# Altium footprint library smart-clock-pcblib.PcbLib: 16 footprints
Each footprint in its own frame and in the unit in brackets; x right, y up, seen from the top. Pads: shape width x height; smd on the part's side, far side on the other; paste and mask are expansions set on the pad; w line width, h text height; cw(c..) or ccw(c..) is an arc to the next point about the centre after c.
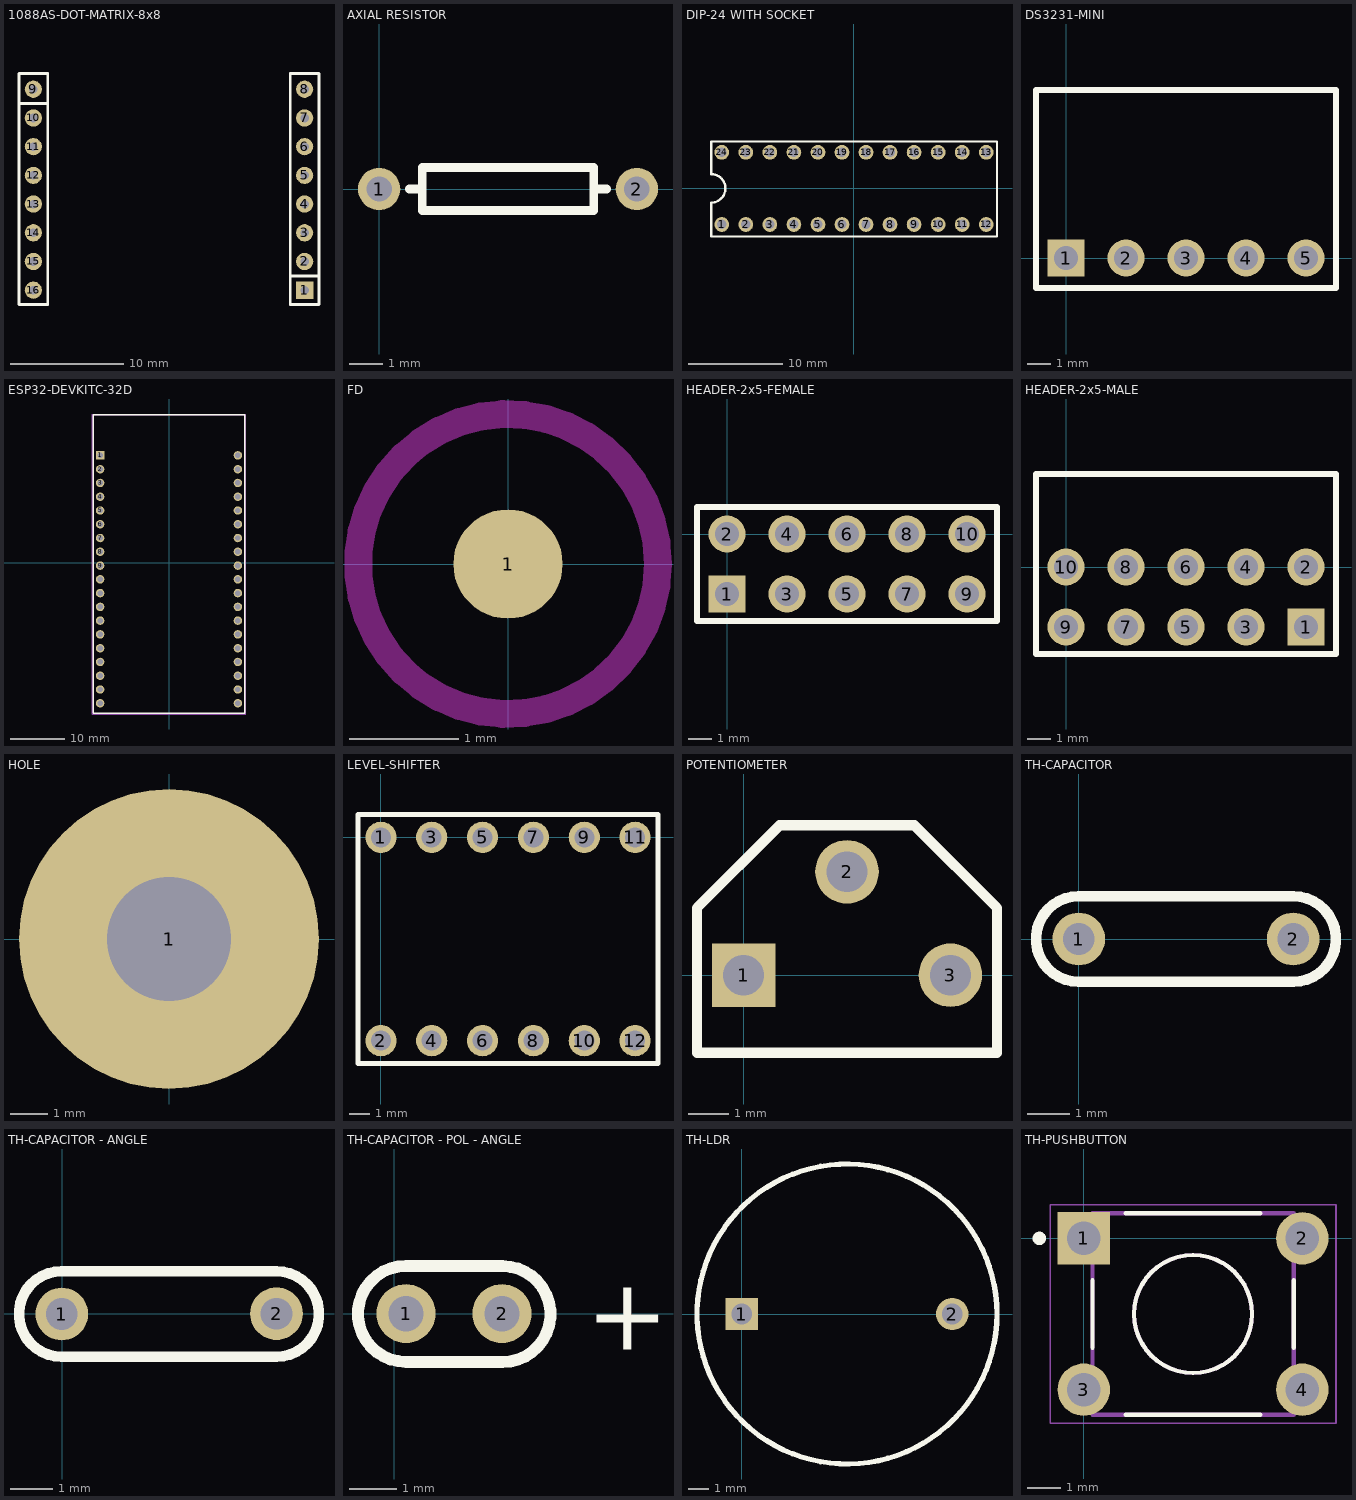
[diagram p0: the footprints below, top view; thin cyan lines are the x and y axes]

## 1088AS-DOT-MATRIX-8x8 [mil] "8x8 DOT MATRIX DISPLAY"
pads (16):
  rect 60x60 hole 30: 1(1100,280)
  round 60 hole 30: 2(1100,380) 3(1100,480) 4(1100,580) 5(1100,680) 6(1100,780) 7(1100,880) 8(1100,980) 9(155,980) 10(155,880) 11(155,780) 12(155,680) 13(155,580) 14(155,480) 15(155,380) 16(155,280)
Top Overlay:
  lines w10: 105,930 205,930 ; 1050,330 1145,330 ; 105,230 205,230 205,1035 105,1035 105,230 ; 1050,230 1150,230 1150,1035 1050,1035 1050,230
3D body "8x8 LED Dot Matrix Display Module.step": height 396.54, standoff -124.33, extent 0,4.02 1252.36,1255.98

## AXIAL RESISTOR [mm] "STANDARD AXIAL RESISTOR"
pads (2):
  round 1.25 hole 0.75: 1(0,0) 2(7.62,0)
Top Overlay:
  lines w0.254: 0.889,0 1.27,0 ; 6.35,0 6.731,0 ; 1.27,0 1.27,-0.635 6.35,-0.635 6.35,0.635 1.27,0.635 1.27,0
3D body "TH Resistor - 10k.step": height 2.28, standoff -3.32, extent -0.255,-1.108 7.865,1.092

## DIP-24 WITH SOCKET [mm] "DIP-24 PACKAGE WITH SOCKET"
pads (24):
  round 1.56 hole 1: 1(-13.97,-3.81) 2(-11.43,-3.81) 3(-8.89,-3.81) 4(-6.35,-3.81) 5(-3.81,-3.81) 6(-1.27,-3.81) 7(1.27,-3.81) 8(3.81,-3.81) 9(6.35,-3.81) 10(8.89,-3.81) 11(11.43,-3.81) 12(13.97,-3.81) 13(13.97,3.81) 14(11.43,3.81) 15(8.89,3.81) 16(6.35,3.81) 17(3.81,3.81) 18(1.27,3.81) 19(-1.27,3.81) 20(-3.81,3.81) 21(-6.35,3.81) 22(-8.89,3.81) 23(-11.43,3.81) 24(-13.97,3.81)
Top Overlay:
  lines w0.254: -15.104,-5.08 -15.104,-1.5 ccw(c-15.089,0) -15.086,1.5 -15.086,4.953 15.113,4.953 15.113,-5.08 -15.104,-5.08
3D body "MAX7219.step": height 9.13, standoff -3.25, extent -15.24,-5.08 15.24,5.08

## DS3231-MINI [mm] "DS3231-MINI"
pads (5):
  rect 1.56x1.56 hole 1: 1(0,0)
  round 1.56 hole 1: 2(2.54,0) 3(5.08,0) 4(7.62,0) 5(10.16,0)
Top Overlay:
  lines w0.254: -1.27,-1.27 11.43,-1.27 11.43,7.112 -1.27,7.112 -1.27,-1.27
3D body "DS3231 Mini.step": height 15.29, standoff -8.86, extent -1.275,-0.335 11.435,7.031

## ESP32-DEVKITC-32D [mm] "ESP32-DEVKITC-32D"
pads (38):
  rect 1.56x1.56 hole 1: 1(-12.7,19.76)
  round 1.56 hole 1: 2(-12.7,17.22) 3(-12.7,14.68) 4(-12.7,12.14) 5(-12.7,9.6) 6(-12.7,7.06) 7(-12.7,4.52) 8(-12.7,1.98) 9(-12.7,-0.56) 10(-12.7,-3.1) 11(-12.7,-5.64) 12(-12.7,-8.18) 13(-12.7,-10.72) 14(-12.7,-13.26) 15(-12.7,-15.8) 16(-12.7,-18.34) 17(-12.7,-20.88) 18(-12.7,-23.42) 19(-12.7,-25.96) 20(12.7,19.76) 21(12.7,17.22) 22(12.7,14.68) 23(12.7,12.14) 24(12.7,9.6) 25(12.7,7.06) 26(12.7,4.52) 27(12.7,1.98) 28(12.7,-0.56) 29(12.7,-3.1) 30(12.7,-5.64) 31(12.7,-8.18) 32(12.7,-10.72) 33(12.7,-13.26) 34(12.7,-15.8) 35(12.7,-18.34) 36(12.7,-20.88) 37(12.7,-23.42) 38(12.7,-25.96)
Top Overlay:
  lines w0.254: -13.95,-27.813 13.95,-27.813 13.95,27.305 -13.95,27.305 -13.95,-27.813
Mechanical 13:
  lines w0.127: -13.95,27.305 -13.95,-27.813 13.95,-27.813 13.95,27.305
  lines w0.2: -13.95,27.305 13.95,27.305
Mechanical 15:
  lines w0.05: -14.2,-27.94 -14.2,27.4 14.2,27.4 14.2,-27.94 -14.2,-27.94
3D body "ESP32-DEVKITC-32D.STEP": height 6.81, standoff -5.88, extent -13.97,-27.848 13.97,27.252

## FD [mm] "FIDUCIAL MARKER"
pads (1):
  round 1 all layers, no hole mask+1: 1(0,0)
Keep-Out Layer:
  circle w0.254: c0,0 r1.373

## HEADER-2x5-FEMALE [mm] "2.54mm FEMALE HEADER - 2x5"
pads (10):
  rect 1.56x1.56 hole 1: 1(0,-2.54)
  round 1.56 hole 1: 2(0,0) 3(2.54,-2.54) 4(2.54,0) 5(5.08,-2.54) 6(5.08,0) 7(7.62,-2.54) 8(7.62,0) 9(10.16,-2.54) 10(10.16,0)
Top Overlay:
  lines w0.254: -1.27,-3.683 -1.27,1.143 11.43,1.143 11.43,-3.683 -1.27,-3.683
3D body "2x5 Female Pin Header.stp": height 8.58, standoff -2.92, extent -1.494,-3.796 11.706,1.204

## HEADER-2x5-MALE [mm] "2.54mm MALE HEADER - 2x5"
pads (10):
  rect 1.56x1.56 hole 1: 1(10.16,-2.54)
  round 1.56 hole 1: 2(10.16,0) 3(7.62,-2.54) 4(7.62,0) 5(5.08,-2.54) 6(5.08,0) 7(2.54,-2.54) 8(2.54,0) 9(0,-2.54) 10(0,0)
Top Overlay:
  lines w0.254: -1.27,-3.683 11.43,-3.683 11.43,3.937 -1.27,3.937 -1.27,-3.683
3D body "2x5 Male Pin Header Angle.STEP": height 5.04, standoff -2.96, extent -1.27,-2.836 11.435,12.064

## HOLE [mm] "M3 SCREW HOLE"
pads (1):
  round 8 hole 3.3: 1(0,0)

## LEVEL-SHIFTER [mm] "3.3V TO 5V LEVEL SHIFTER"
pads (12):
  round 1.56 hole 1: 1(0,0) 2(0,-10.16) 3(2.54,0) 4(2.54,-10.16) 5(5.08,0) 6(5.08,-10.16) 7(7.62,0) 8(7.62,-10.16) 9(10.16,0) 10(10.16,-10.16) 11(12.7,0) 12(12.7,-10.16)
Top Overlay:
  lines w0.254: -1.143,-11.303 -1.143,1.143 13.843,1.143 13.843,-11.303 -1.143,-11.303
3D body "LEVEL SHIFTER.step": height 5.58, standoff -8, extent -1.285,-11.43 14.01,1.27

## POTENTIOMETER [mm] "POTENTIOMETER"
pads (3):
  rect 1.56x1.56 hole 1: 1(0,0)
  round 1.56 hole 1: 2(2.54,2.54) 3(5.08,0)
Top Overlay:
  lines w0.254: -1.143,-1.905 6.223,-1.905 6.223,-1.143 6.223,1.651 4.191,3.683 0.889,3.683 -1.143,1.651 -1.143,-0.889 -1.143,-1.905
3D body "TH Potmeter.step": height 8.34, standoff -3.31, extent -0.71,-2.032 5.79,2.838

## TH-CAPACITOR [mm] "TH-CAPACITOR"
pads (2):
  round 1.25 hole 0.75: 1(0,0) 2(5.08,0)
Top Overlay:
  lines w0.254: 0,-1.016 cw(c0,0) 0,1.016 5.08,1.016 cw(c5.08,0) 5.08,-1.016 0,-1.016
3D body "TH Capacitor - 0.1uF.step": height 6.86, standoff -2.88, extent -0.708,-1.27 5.788,1.225

## TH-CAPACITOR - ANGLE [mm] "TH-CAPACITOR - ANGLE"
pads (2):
  round 1.25 hole 0.75: 1(-0.009,-0.008) 2(5.08,0)
Top Overlay:
  lines w0.254: -0.009,-1.024 cw(c-0.009,-0.008) -0.009,1.008 5.071,1.008 cw(c5.071,-0.008) 5.071,-1.024 -0.009,-1.024
3D body "TH Capacitor - Angle.step": height 2.64, standoff -4.11, extent -0.762,-0.32 5.734,6.67

## TH-CAPACITOR - POL - ANGLE [mm] "TH-CAPACITOR - POL - ANGLE"
pads (2):
  round 1.25 hole 0.75: 1(0.254,0) 2(2.286,0)
Top Overlay:
  lines w0.254: 0.254,-1.024 2.286,-1.024 ; 0.254,-1.022 cw(c0.254,-0.006) 0.254,1.01 ; 0.254,1.008 2.286,1.008 ; 2.295,-1.026 ccw(c2.295,-0.01) 2.295,1.006
  text "+" at 4.064,-0.762 h1.52
3D body "TH Capacitor - 1uF.step": height 5.09, standoff -2.82, extent -1.23,-8.396 3.77,0.254

## TH-LDR [mm]
pads (2):
  rect 1.56x1.56 hole 1: 1(0,0)
  round 1.56 hole 1: 2(10.16,0)
Top Overlay:
  circle w0.254: c5.08,0 r7.239
3D body "TH LDR.step": height 10.1, standoff -12.95, extent -2.181,-7.248 12.319,7.247

## TH-PUSHBUTTON [mm] "THROUGH HOLE PUSHBUTTON"
pads (4):
  rect 1.56x1.56 hole 1: 1(0,0)
  round 1.56 hole 1: 2(6.5,0) 3(0,-4.5) 4(6.5,-4.5)
Top Overlay:
  circle w0.2: c-1.322,0 r0.1
  circle w0.127: c3.25,-2.25 r1.755
  lines w0.127: 0.255,-3.25 0.255,-1.25 ; 1.25,-5.245 5.25,-5.245 ; 1.25,0.745 5.25,0.745 ; 6.245,-3.25 6.245,-1.25
Mechanical 13:
  circle w0.127: c3.25,-2.25 r1.755
  lines w0.127: 0.255,-5.245 6.245,-5.245 6.245,0.745 0.255,0.745 0.255,-5.245
Mechanical 15:
  lines w0.05: -1,-5.5 7.5,-5.5 7.5,1 -1,1 -1,-5.5
3D body "TH Pushbutton.step": height 5.01, standoff -3.51, extent -0.596,-5.228 7.2,0.762